# EAGLE library part CD4054B (library misc)
CMOS Liquid-Crystal Display Drivers
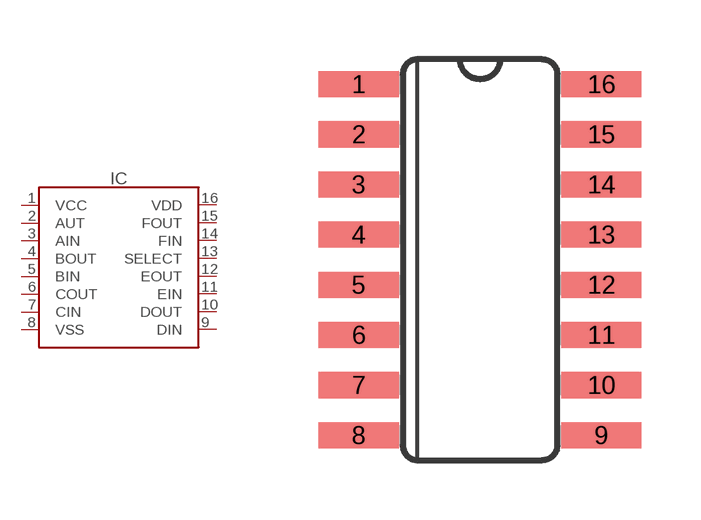
[diagram p101: symbol with the pads of SOIC16; footprint SOIC16]

Designator prefix IC

## CD4054B (MANF: TI; MANF#: CD4054BM96)  [SOIC16]
1  VCC
2  AUT
3  AIN
4  BOUT
5  BIN
6  COUT
7  CIN
8  VSS
9  DIN
10  DOUT
11  EIN
12  EOUT
13  SELECT
14  FIN
15  FOUT
16  VDD

## Footprint SOIC16 (pad centres in mm)
3D model <http://grabcad.com/library/106x-soic-packages-small-outline-integrated-circuit-1/details?folder_id=13776991>
smd 2.032 x 0.66: 1 -3.073,4.445; 2 -3.073,3.175; 3 -3.073,1.905; 4 -3.073,0.635; 5 -3.073,-0.635; 6 -3.073,-1.905; 7 -3.073,-3.175; 8 -3.073,-4.445; 9 3.073,-4.445; 10 3.073,-3.175; 11 3.073,-1.905; 12 3.073,-0.635; 13 3.073,0.635; 14 3.073,1.905; 15 3.073,3.175; 16 3.073,4.445